# EAGLE library part FPC_1.0MM_10-PIN (library edrtech_lib)
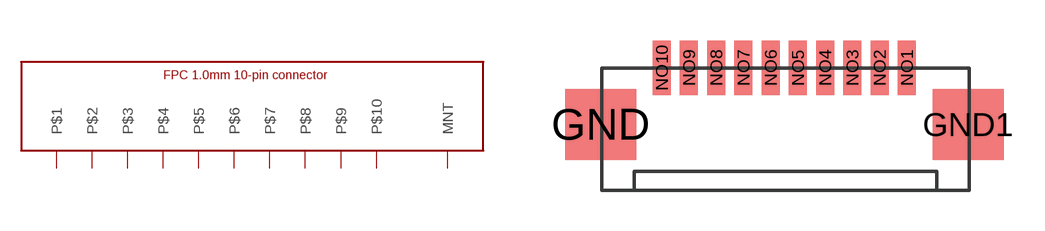
[diagram p0: symbol with the pads of FPC_1.0MM_10-PIN; footprint FPC_1.0MM_10-PIN]

Designator prefix -

## FPC_1.0MM_10-PIN  [FPC_1.0MM_10-PIN]
GND  MNT
GND1  MNT
NO1  P$1
NO2  P$2
NO3  P$3
NO4  P$4
NO5  P$5
NO6  P$6
NO7  P$7
NO8  P$8
NO9  P$9
NO10  P$10

## Footprint FPC_1.0MM_10-PIN (pad centres in mm)
smd 2.6 x 2.6: GND -6.74,0.17; GND1 6.76,0.17
smd 0.66 x 2: NO1 4.5,2.25; NO2 3.5,2.25; NO3 2.5,2.25; NO4 1.5,2.25; NO5 0.5,2.25; NO6 -0.5,2.25; NO7 -1.5,2.25; NO8 -2.5,2.25; NO9 -3.5,2.25; NO10 -4.5,2.25